# Altium footprint library Connectors.PcbLib: 36 footprints (part 3 of 3)
Each footprint in its own frame and in the unit in brackets; x right, y up, seen from the top. Pads: shape width x height; smd on the part's side, far side on the other; paste and mask are expansions set on the pad; w line width, h text height; cw(c..) or ccw(c..) is an arc to the next point about the centre after c.
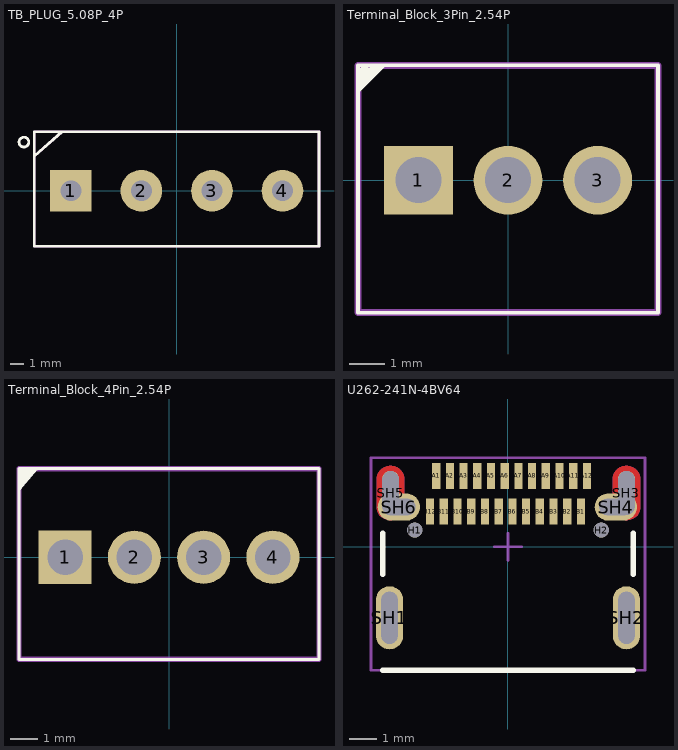
[diagram p2: the footprints below, top view; thin cyan lines are the x and y axes]

## TB_PLUG_5.08P_4P [mm]
pads (4):
  rect 3x3 hole 1.5: 1(-7.62,0)
  round 3 hole 1.5: 2(-2.54,0) 3(2.54,0) 4(7.62,0)
Top Overlay:
  circle w0.2: c-11,3.5 r0.354
  lines w0.2: -10.25,2.5 -8.25,4.25 ; -10.25,-4 10.25,-4 10.25,4.25 -10.25,4.25 -10.25,-4
Mechanical 13:
  lines w0.2: -10.25,2.5 -8.25,4.25 ; -10.25,-4 10.25,-4 10.25,4.25 -10.25,4.25 -10.25,-4
Mechanical 15:
  lines w0.2: -10.25,2.5 -8.25,4.25 ; -10.25,-4 -10.25,4.25 10.25,4.25 10.25,-4 -10.25,-4
3D body "1146380000.stp": height 12.2, standoff -3, extent -9.978,-3.775 10.142,4.655

## Terminal_Block_3Pin_2.54P [mm]
pads (3):
  rect 1.95x1.95 hole 1.3: 1(-2.54,0)
  round 1.95 hole 1.3: 2(0,0) 3(2.54,0)
Top Overlay:
  lines w0.1: -4.234,2.53 -3.546,3.217 -3.826,3.217 -4.232,2.811 -4.232,2.658 ; -4.199,3.106 -4.207,3.098 ; -3.706,3.09 -3.706,3.202 -3.734,3.174 -3.734,3.118 -4.183,2.669 -4.183,2.737 -3.774,3.146 -3.98,3.146 -4.215,2.912 -4.215,2.987 -4.016,3.186 -4.119,3.186 -4.207,3.098 ; -4.207,3.098 -4.207,3.098 ; -4.25,-3.75 -4.25,3.25 4.25,3.25 4.25,-3.75 -4.25,-3.75
Mechanical 13:
  lines w0.2: -4.25,-3.75 -4.25,3.25 4.25,3.25 4.25,-3.75 -4.25,-3.75
Mechanical 15:
  lines w0.1: -4.25,-3.75 4.25,-3.75 4.25,3.25 -4.25,3.25 -4.25,-3.75
3D body "KF128-2.54-3P.step": height 8.5, standoff -3.75, extent -4.01,-3.5 4.01,3

## Terminal_Block_4Pin_2.54P [mm]
pads (4):
  rect 1.95x1.95 hole 1.3: 1(-3.81,0)
  round 1.95 hole 1.3: 2(-1.27,0) 3(1.27,0) 4(3.81,0)
Top Overlay:
  lines w0.1: -5.479,3.095 -5.371,3.236 -5.199,3.238 -5.49,2.856 -5.312,3.21 -5.461,3.032 -5.061,3.243 -5.488,2.726 -5.039,3.229 -4.92,3.229 -5.481,2.6 -5.485,2.493 -4.861,3.227 ; -5.216,3.12 -5.129,3.208 -5.025,3.208 ; -5.5,-3.75 5.5,-3.75 5.5,3.25 -5.5,3.25 -5.5,-3.75
Mechanical 13:
  lines w0.2: -5.5,-3.75 5.5,-3.75 5.5,3.25 -5.5,3.25 -5.5,-3.75
Mechanical 15:
  lines w0.1: -5.5,-3.75 5.5,-3.75 5.5,3.25 -5.5,3.25 -5.5,-3.75
3D body "KF128-2.54-4P.step": height 8.5, standoff -3.75, extent -5.256,-3.591 5.304,2.909

## U262-241N-4BV64 [mm] "-40?~+85? 1 24P 5A Female Type-C SMD USB Connectors ROHS"
pads (32):
  rect 0.3x0.95 smd mask-2539.97: A1(-2.62,2.587) A2(-2.12,2.587) A3(-1.62,2.587) A4(-1.12,2.587) A5(-0.62,2.587) A6(-0.12,2.587) A7(0.38,2.587) A8(0.88,2.587) A9(1.38,2.587) A10(1.88,2.587) A11(2.38,2.587) A12(2.88,2.588) B1(2.66,1.287) B2(2.16,1.287) B3(1.66,1.287) B4(1.16,1.287) B5(0.66,1.287) B6(0.16,1.287) B7(-0.34,1.287) B8(-0.84,1.287) B9(-1.34,1.287) B10(-1.84,1.287) B11(-2.34,1.287) B12(-2.84,1.287)
  round 0.55 hole 0.55 unplated mask+0.05: H1(-3.4,0.613) H2(3.4,0.613)
  rrect100% 1x2.3 hole 0.6 slot 1.9 at 90 deg mask-2539.97: SH1(-4.32,-2.588) SH2(4.32,-2.588)
  oval 0.625x1.625 hole 0.6 slot 1.6 at 90 deg mask-2539.97: SH3(4.32,1.962) SH5(-4.28,1.962)
  rrect100% 1.54x1 hole 0.6 slot 1.2 at 0 deg mask-2539.97: SH4(3.933,1.453) SH6(-3.98,1.453)
Top Layer:
  region: 3.82,1.462 3.82,1.413 3.839,1.316 3.877,1.225 3.932,1.144 4.001,1.074 4.083,1.019 4.174,0.981 4.271,0.962 4.32,0.962 4.369,0.962 4.466,0.981 4.557,1.019 4.639,1.074 4.708,1.144 4.763,1.225 4.801,1.316 4.82,1.413 4.82,1.462 4.82,2.462 4.82,2.511 4.801,2.608 4.763,2.699 4.708,2.781 4.639,2.851 4.557,2.905 4.466,2.943 4.369,2.962 4.32,2.962 4.271,2.962 4.174,2.943 4.083,2.905 4.001,2.851 3.932,2.781 3.877,2.699 3.839,2.608 3.82,2.511 3.82,2.462
  region: -3.78,1.462 -3.78,1.413 -3.799,1.316 -3.837,1.225 -3.892,1.144 -3.961,1.074 -4.043,1.019 -4.134,0.981 -4.231,0.962 -4.28,0.962 -4.329,0.962 -4.426,0.981 -4.517,1.019 -4.599,1.074 -4.668,1.144 -4.723,1.225 -4.761,1.316 -4.78,1.413 -4.78,1.462 -4.78,2.462 -4.78,2.511 -4.761,2.608 -4.723,2.699 -4.668,2.781 -4.599,2.851 -4.517,2.905 -4.426,2.943 -4.329,2.962 -4.28,2.962 -4.231,2.962 -4.134,2.943 -4.043,2.905 -3.961,2.851 -3.892,2.781 -3.837,2.699 -3.799,2.608 -3.78,2.511 -3.78,2.462
Bottom Layer:
  region: 3.82,1.462 3.82,1.413 3.839,1.316 3.877,1.225 3.932,1.144 4.001,1.074 4.083,1.019 4.174,0.981 4.271,0.962 4.32,0.962 4.369,0.962 4.466,0.981 4.557,1.019 4.639,1.074 4.708,1.144 4.763,1.225 4.801,1.316 4.82,1.413 4.82,1.462 4.82,2.462 4.82,2.511 4.801,2.608 4.763,2.699 4.708,2.781 4.639,2.851 4.557,2.905 4.466,2.943 4.369,2.962 4.32,2.962 4.271,2.962 4.174,2.943 4.083,2.905 4.001,2.851 3.932,2.781 3.877,2.699 3.839,2.608 3.82,2.511 3.82,2.462
  region: -3.78,1.462 -3.78,1.413 -3.799,1.316 -3.837,1.225 -3.892,1.144 -3.961,1.074 -4.043,1.019 -4.134,0.981 -4.231,0.962 -4.28,0.962 -4.329,0.962 -4.426,0.981 -4.517,1.019 -4.599,1.074 -4.668,1.144 -4.723,1.225 -4.761,1.316 -4.78,1.413 -4.78,1.462 -4.78,2.462 -4.78,2.511 -4.761,2.608 -4.723,2.699 -4.668,2.781 -4.599,2.851 -4.517,2.905 -4.426,2.943 -4.329,2.962 -4.28,2.962 -4.231,2.962 -4.134,2.943 -4.043,2.905 -3.961,2.851 -3.892,2.781 -3.837,2.699 -3.799,2.608 -3.78,2.511 -3.78,2.462
Top Overlay:
  lines w0.2: -4.57,-4.5 4.57,-4.5 ; -4.57,-1 -4.57,0.5 ; 4.57,-1 4.57,0.5
Top Solder:
  drawing of 72 lines, arcs and shapes, not listed
Bottom Solder:
  region: 4.408,1.303 3.458,1.303 3.458,1.603 4.408,1.603
  region: -4.47,-3.063 -4.47,-2.113 -4.17,-2.113 -4.17,-3.063
  region: 4.17,-3.063 4.17,-2.113 4.47,-2.113 4.47,-3.063
  region: 4.17,1.487 4.17,2.437 4.47,2.437 4.47,1.487
  region: -4.455,1.303 -3.505,1.303 -3.505,1.603 -4.455,1.603
  region: -4.13,1.487 -4.13,2.437 -4.43,2.437 -4.43,1.487
Top Courtyard:
  lines w0.1: -5,-4.5 5,-4.5 5,3.25 -5,3.25 -5,-4.5
Mechanical 13:
  lines w0.05: 3.662,1.142 cw(c3.662,1.447) 3.662,1.752 4.018,1.752 4.018,2.489 cw(c4.323,2.489) 4.628,2.489 4.628,1.498 cw(c4.285,1.485) 4.297,1.142 3.662,1.142
Mechanical 15:
  lines w0.1: -0.5,0 0.5,0 ; 0,-0.5 0,0.5
Bottom Courtyard:
  lines w0.1: -5,-4.5 -5,3.25 5,3.25 5,-4.5 -5,-4.5
3D body "U262-241N-4BV64.stp": height 3.18, standoff -0.58, extent -4.475,-5.3 4.475,2.8